# Altium footprint library 43650-0200.PcbLib: 1 footprints
Each footprint in its own frame and in the unit in brackets; x right, y up, seen from the top. Pads: shape width x height; smd on the part's side, far side on the other; paste and mask are expansions set on the pad; w line width, h text height; cw(c..) or ccw(c..) is an arc to the next point about the centre after c.
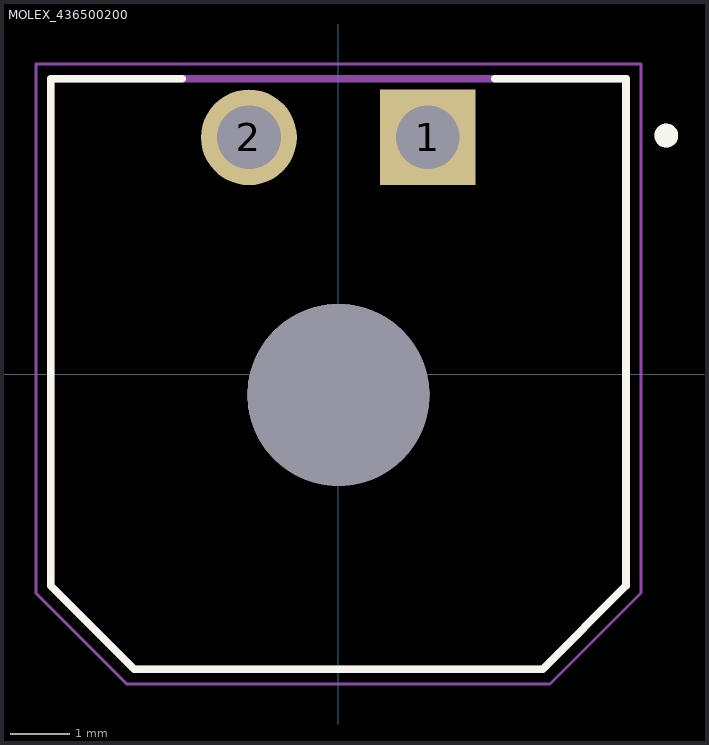
[diagram p0: the footprint, top view; thin cyan lines are the x and y axes]

## MOLEX_436500200 [mm]
pads (3):
  rect 1.605x1.605 hole 1.07: 1(1.5,3.97)
  round 1.605 hole 1.07: 2(-1.5,3.97)
  round 3.05 hole 3.05 unplated: ""(0,-0.35)
Top Overlay:
  circle w0.2: c5.5,4 r0.1
  lines w0.127: -2.62,4.95 -4.825,4.95 -4.825,-3.55 -3.425,-4.95 3.425,-4.95 4.825,-3.55 4.825,4.95 2.62,4.95
Mechanical 13:
  circle w0.2: c5.5,4 r0.1
  lines w0.127: -4.825,-3.55 -3.425,-4.95 3.425,-4.95 4.825,-3.55 4.825,4.95 -4.825,4.95 -4.825,-3.55
Mechanical 15:
  lines w0.05: -5.075,-3.675 -3.55,-5.2 3.55,-5.2 5.075,-3.675 5.075,5.2 -5.075,5.2 -5.075,-3.675